# Altium schematic symbol library ISO6721BDR.SchLib: 1 symbol
Pins are listed as number, name and electrical type; pins without a type are passive.

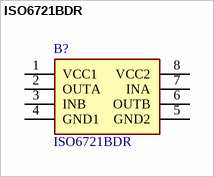
[diagram p0: symbol ISO6721BDR]

## ISO6721BDR
designator B?
ISO672x General Purpose Dual Channel Digital Isolators with Robust EMC; Manufacturer_Name: Texas Instruments; Geometry.Height: 1.75mm; Mouser Part Number: 595-ISO6721BDR; Mouser Price/Stock: https://www.mouser.co.uk/ProductDetail/Texas-Instruments/ISO6721BDR?qs=eP2BKZSCXI7%2FRQwMzsUPCg%3D%3D; Manufacturer_Part_Number: ISO6721BDR; Datasheet Link: https://www.arrow.com/en/products/iso6721bdr/texas-instruments
footprint SOIC127P600X175-8N
pins: 1 VCC1, 2 OUTA, 3 INB, 4 GND1, 5 GND2, 6 OUTB, 7 INA, 8 VCC2